# EAGLE library part SI7051-A20-IM (library circuit_tree)
IC
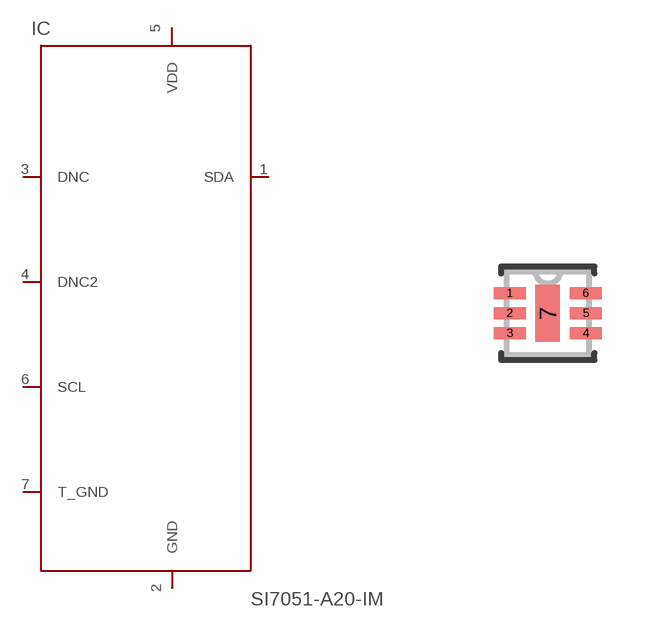
[diagram p4: symbol with the pads of DFN-6; footprint DFN-6]

Designator prefix IC

## SI7051-A20-IM  [DFN-6]
1  SDA  pas
2  GND  pas
3  DNC  pas
4  DNC2  pas
5  VDD  pas
6  SCL  pas
7  T_GND  pas

## Footprint DFN-6 (pad centres in mm)
smd 0.805 x 0.3: 1 -0.952,0.5; 2 -0.952,0; 3 -0.952,-0.5; 4 0.952,-0.5; 5 0.952,0; 6 0.952,0.5
smd 0.61 x 1.42: 7 0,0